# Altium integrated library TLV493D-A1B6.IntLib: 1 symbol
Pins are listed as number, name and electrical type; pins without a type are passive.

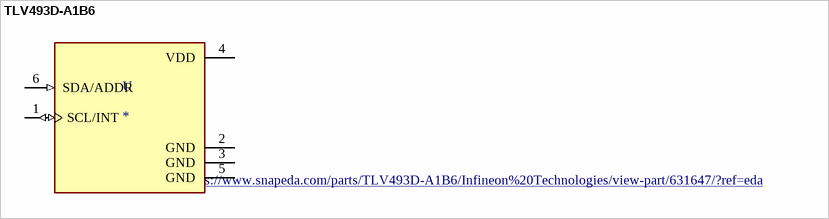
[diagram p0: symbol TLV493D-A1B6]

## TLV493D-A1B6
designator U
Hall Effect Sensor Linear, Rotary Position External Magnet, Not Included SMD (SMT) Tab; MP: TLV493D-A1B6; MF: Infineon Technologies; Package: TSOP-6 Infineon; Availability: Warning; Value: *; SnapEDA_Link: https://www.snapeda.com/parts/TLV493D-A1B6/Infineon%20Technologies/view-part/631647/?ref=snap; Price: None; BuyPart: https://www.snapeda.com/parts/TLV493D-A1B6/Infineon%20Technologies/view-part/631647/?ref=eda
footprint SOT95P250X110-6N
pins: 1 SCL/INT (io), 2 GND (power), 3 GND (power), 4 VDD (power), 5 GND (power), 6 SDA/ADDR (in)